# EAGLE library part L298N (library BartendingRobot)
Mounting for L298N board and logic pins
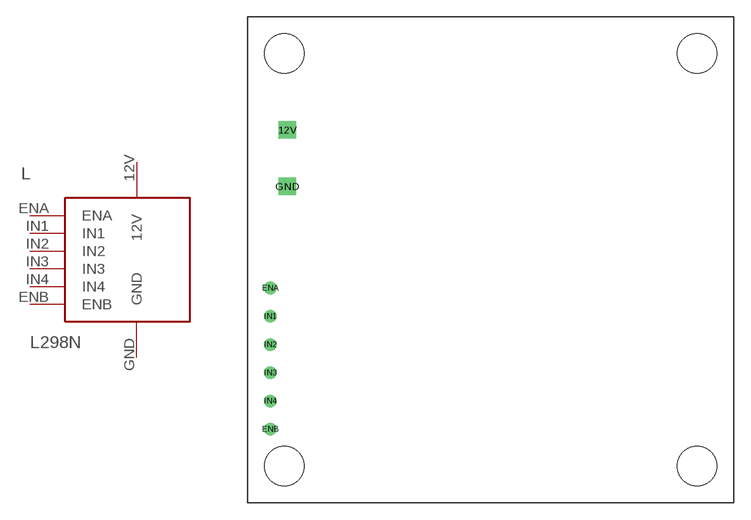
[diagram p2: symbol with the pads of L298N; footprint L298N]

Designator prefix L

## L298N  [L298N]
12V  12V
ENA  ENA
ENB  ENB
GND  GND
IN1  IN1
IN2  IN2
IN3  IN3
IN4  IN4

## Footprint L298N (pad centres in mm)
drill 1 square: 12V -18,11.5; GND -18,6.5
drill 0.6: ENA -19.5,-2.5; ENB -19.5,-15; IN1 -19.5,-5; IN2 -19.5,-7.5; IN3 -19.5,-10; IN4 -19.5,-12.5
hole 3.5 at -18.25,-18.25
hole 3.5 at 18.25,-18.25
hole 3.5 at 18.25,18.25
hole 3.5 at -18.25,18.25